# Altium schematic symbol library NE555P.SchLib: 1 symbol
Pins are listed as number, name and electrical type; pins without a type are passive.

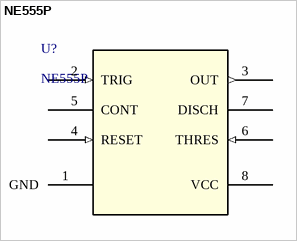
[diagram p0: symbol NE555P]

## NE555P
designator U?
Single Precision Timer 8-PDIP 0 to 70; Manufacturer_Name: Texas Instruments; Copyright: Copyright (C) 2025 Ultra Librarian. All rights reserved.; Manufacturer_Part_Number: NE555P; Datasheet: https://www.ti.com/lit/gpn/ne555; RefDes: RefDes; Type: Type
footprint P8
pins: 1 GND (power), 2 TRIG (in), 3 OUT (out), 4 RESET (in), 5 CONT, 6 THRES (in), 7 DISCH, 8 VCC (power)